# EAGLE library part TEST9 (library harrison)
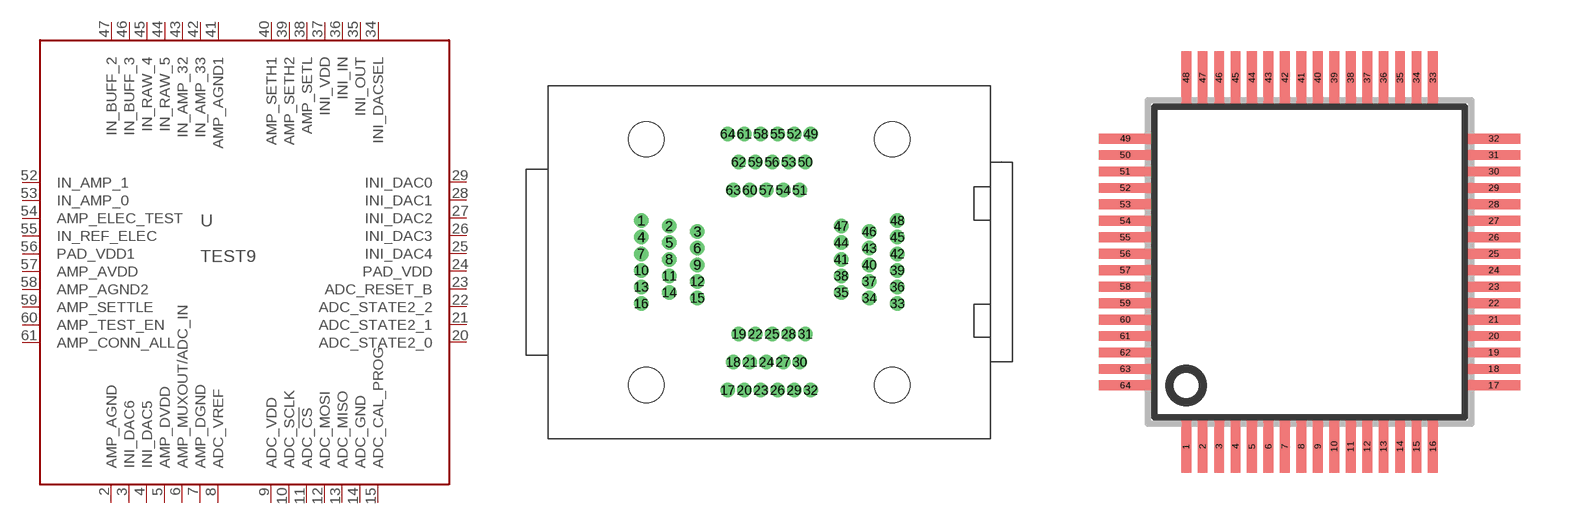
[diagram p61: symbol with the pads of ZIF_QFP64_10_X_10; footprints ZIF_QFP64_10_X_10, LQFP-64]

Designator prefix U

## TEST9  [ZIF_QFP64_10_X_10]
2  AMP_AGND  pwr
3  INI_DAC6  in
4  INI_DAC5  in
5  AMP_DVDD  pwr
6  AMP_MUXOUT/ADC_IN
7  AMP_DGND  pwr
8  ADC_VREF
9  ADC_VDD  pwr
10  ADC_SCLK  in
11  ADC_!CS!  in
12  ADC_MOSI  in
13  ADC_MISO  out
14  ADC_GND  pwr
15  ADC_CAL_PROG  out
20  ADC_STATE2_0  out
21  ADC_STATE2_1  out
22  ADC_STATE2_2  out
23  ADC_RESET_B  in
24  PAD_VDD  pwr
25  INI_DAC4  in
26  INI_DAC3  in
27  INI_DAC2  in
28  INI_DAC1  in
29  INI_DAC0  in
34  INI_DACSEL  in
35  INI_OUT  out
36  INI_IN  in
37  INI_VDD  pwr
38  AMP_SETL  pas
39  AMP_SETH2  pas
40  AMP_SETH1  pas
41  AMP_AGND1  pwr
42  IN_AMP_33  in
43  IN_AMP_32  in
44  IN_RAW_5  in
45  IN_RAW_4  in
46  IN_BUFF_3  in
47  IN_BUFF_2  in
52  IN_AMP_1  in
53  IN_AMP_0  in
54  AMP_ELEC_TEST  in
55  IN_REF_ELEC  in
56  PAD_VDD1  pwr
57  AMP_AVDD  pwr
58  AMP_AGND2  pwr
59  AMP_SETTLE  in
60  AMP_TEST_EN  in
61  AMP_CONN_ALL  in

## TEST9_QFP  [LQFP-64]
Pads as for ZIF_QFP64_10_X_10

## Footprint ZIF_QFP64_10_X_10 (pad centres in mm)
drill 0.8 pad 1.27: 1 -11.58,3.75; 2 -9.04,3.25; 3 -6.5,2.75; 4 -11.58,2.25; 5 -9.04,1.75; 6 -6.5,1.25; 7 -11.58,0.75; 8 -9.04,0.25; 9 -6.5,-0.25; 10 -11.58,-0.75; 11 -9.04,-1.25; 12 -6.5,-1.75; 13 -11.58,-2.25; 14 -9.04,-2.75; 15 -6.5,-3.25; 16 -11.58,-3.75; 17 -3.75,-11.58; 18 -3.25,-9.04; 19 -2.75,-6.5; 20 -2.25,-11.58; 21 -1.75,-9.04; 22 -1.25,-6.5; 23 -0.75,-11.58; 24 -0.25,-9.04; 25 0.25,-6.5; 26 0.75,-11.58; 27 1.25,-9.04; 28 1.75,-6.5; 29 2.25,-11.58; 30 2.75,-9.04; 31 3.25,-6.5; 32 3.75,-11.58; 33 11.58,-3.75; 34 9.04,-3.25; 35 6.5,-2.75; 36 11.58,-2.25; 37 9.04,-1.75; 38 6.5,-1.25; 39 11.58,-0.75; 40 9.04,-0.25; 41 6.5,0.25; 42 11.58,0.75; 43 9.04,1.25; 44 6.5,1.75; 45 11.58,2.25; 46 9.04,2.75; 47 6.5,3.25; 48 11.58,3.75; 49 3.75,11.58; 50 3.25,9.04; 51 2.75,6.5; 52 2.25,11.58; 53 1.75,9.04; 54 1.25,6.5; 55 0.75,11.58; 56 0.25,9.04; 57 -0.25,6.5; 58 -0.75,11.58; 59 -1.25,9.04; 60 -1.75,6.5; 61 -2.25,11.58; 62 -2.75,9.04; 63 -3.25,6.5; 64 -3.75,11.58
hole 3.2 at 11.1,11.1
hole 3.2 at -11.1,11.1
hole 3.2 at -11.1,-11.1
hole 3.2 at 11.1,-11.1

## Footprint LQFP-64 (pad centres in mm)
smd 0.3 x 1.6: 1 -3.75,-5.6; 2 -3.25,-5.6; 3 -2.75,-5.6; 4 -2.25,-5.6; 5 -1.75,-5.6; 6 -1.25,-5.6; 7 -0.75,-5.6; 8 -0.25,-5.6; 9 0.25,-5.6; 10 0.75,-5.6; 11 1.25,-5.6; 12 1.75,-5.6; 13 2.25,-5.6; 14 2.75,-5.6; 15 3.25,-5.6; 16 3.75,-5.6; 33 3.75,5.6; 34 3.25,5.6; 35 2.75,5.6; 36 2.25,5.6; 37 1.75,5.6; 38 1.25,5.6; 39 0.75,5.6; 40 0.25,5.6; 41 -0.25,5.6; 42 -0.75,5.6; 43 -1.25,5.6; 44 -1.75,5.6; 45 -2.25,5.6; 46 -2.75,5.6; 47 -3.25,5.6; 48 -3.75,5.6
smd 1.6 x 0.3: 17 5.6,-3.75; 18 5.6,-3.25; 19 5.6,-2.75; 20 5.6,-2.25; 21 5.6,-1.75; 22 5.6,-1.25; 23 5.6,-0.75; 24 5.6,-0.25; 25 5.6,0.25; 26 5.6,0.75; 27 5.6,1.25; 28 5.6,1.75; 29 5.6,2.25; 30 5.6,2.75; 31 5.6,3.25; 32 5.6,3.75; 49 -5.6,3.75; 50 -5.6,3.25; 51 -5.6,2.75; 52 -5.6,2.25; 53 -5.6,1.75; 54 -5.6,1.25; 55 -5.6,0.75; 56 -5.6,0.25; 57 -5.6,-0.25; 58 -5.6,-0.75; 59 -5.6,-1.25; 60 -5.6,-1.75; 61 -5.6,-2.25; 62 -5.6,-2.75; 63 -5.6,-3.25; 64 -5.6,-3.75